# EAGLE library part FDC6312P (library fairchild-semic)
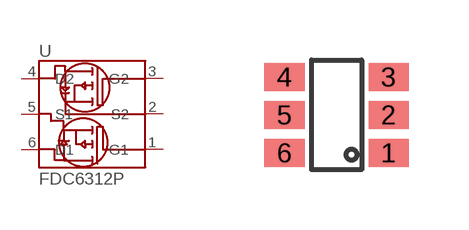
[diagram p4: symbol with the pads of SSOT-6; footprint SSOT-6]

Designator prefix -

## FDC6312P  [SSOT-6]
1  G1
2  S2
3  G2
4  D2
5  S1
6  D1

## Footprint SSOT-6 (pad centres in mm)
smd 1 x 0.7: 1 1.3,-0.95; 2 1.3,0; 3 1.3,0.95; 4 -1.3,0.95; 5 -1.3,0; 6 -1.3,-0.95